# EAGLE library part INA333AIDRGT (library glacsweb)
Instrumentation Amplifier
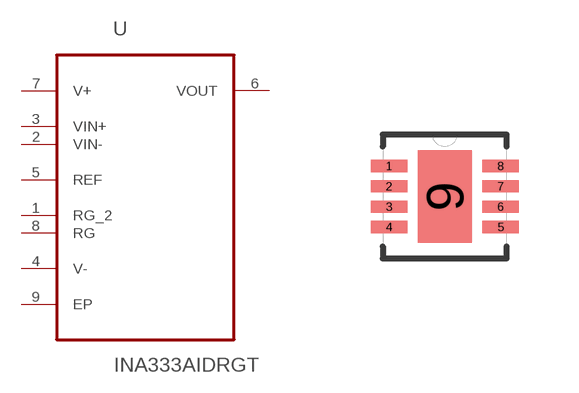
[diagram p4: symbol with the pads of SON50P300X300X80-9N; footprint SON50P300X300X80-9N]

Designator prefix U

## INA333AIDRGT (MPN: INA333AIDRGT; OC_FARNELL: 1903402; OC_NEWARK: 24R9140; PACKAGE: SON-8; SUPPLIER: TEXAS INSTRUMENTS)  [SON50P300X300X80-9N]
1  RG_2  pas
2  VIN-  in
3  VIN+  in
4  V-  pwr
5  REF  in
6  VOUT  out
7  V+  pwr
8  RG  pas
9  EP  pas

## Footprint SON50P300X300X80-9N (pad centres in mm)
smd 0.914 x 0.305: 1 -1.397,0.762; 2 -1.397,0.254; 3 -1.397,-0.254; 4 -1.397,-0.762; 5 1.397,-0.762; 6 1.397,-0.254; 7 1.397,0.254; 8 1.397,0.762
smd 1.346 x 2.311: 9 0,0